# Altium integrated library Linear Technology Power Management Switching Regulator LTC1174-LTC3901.IntLib: 2647 symbols (part 284 of 364)
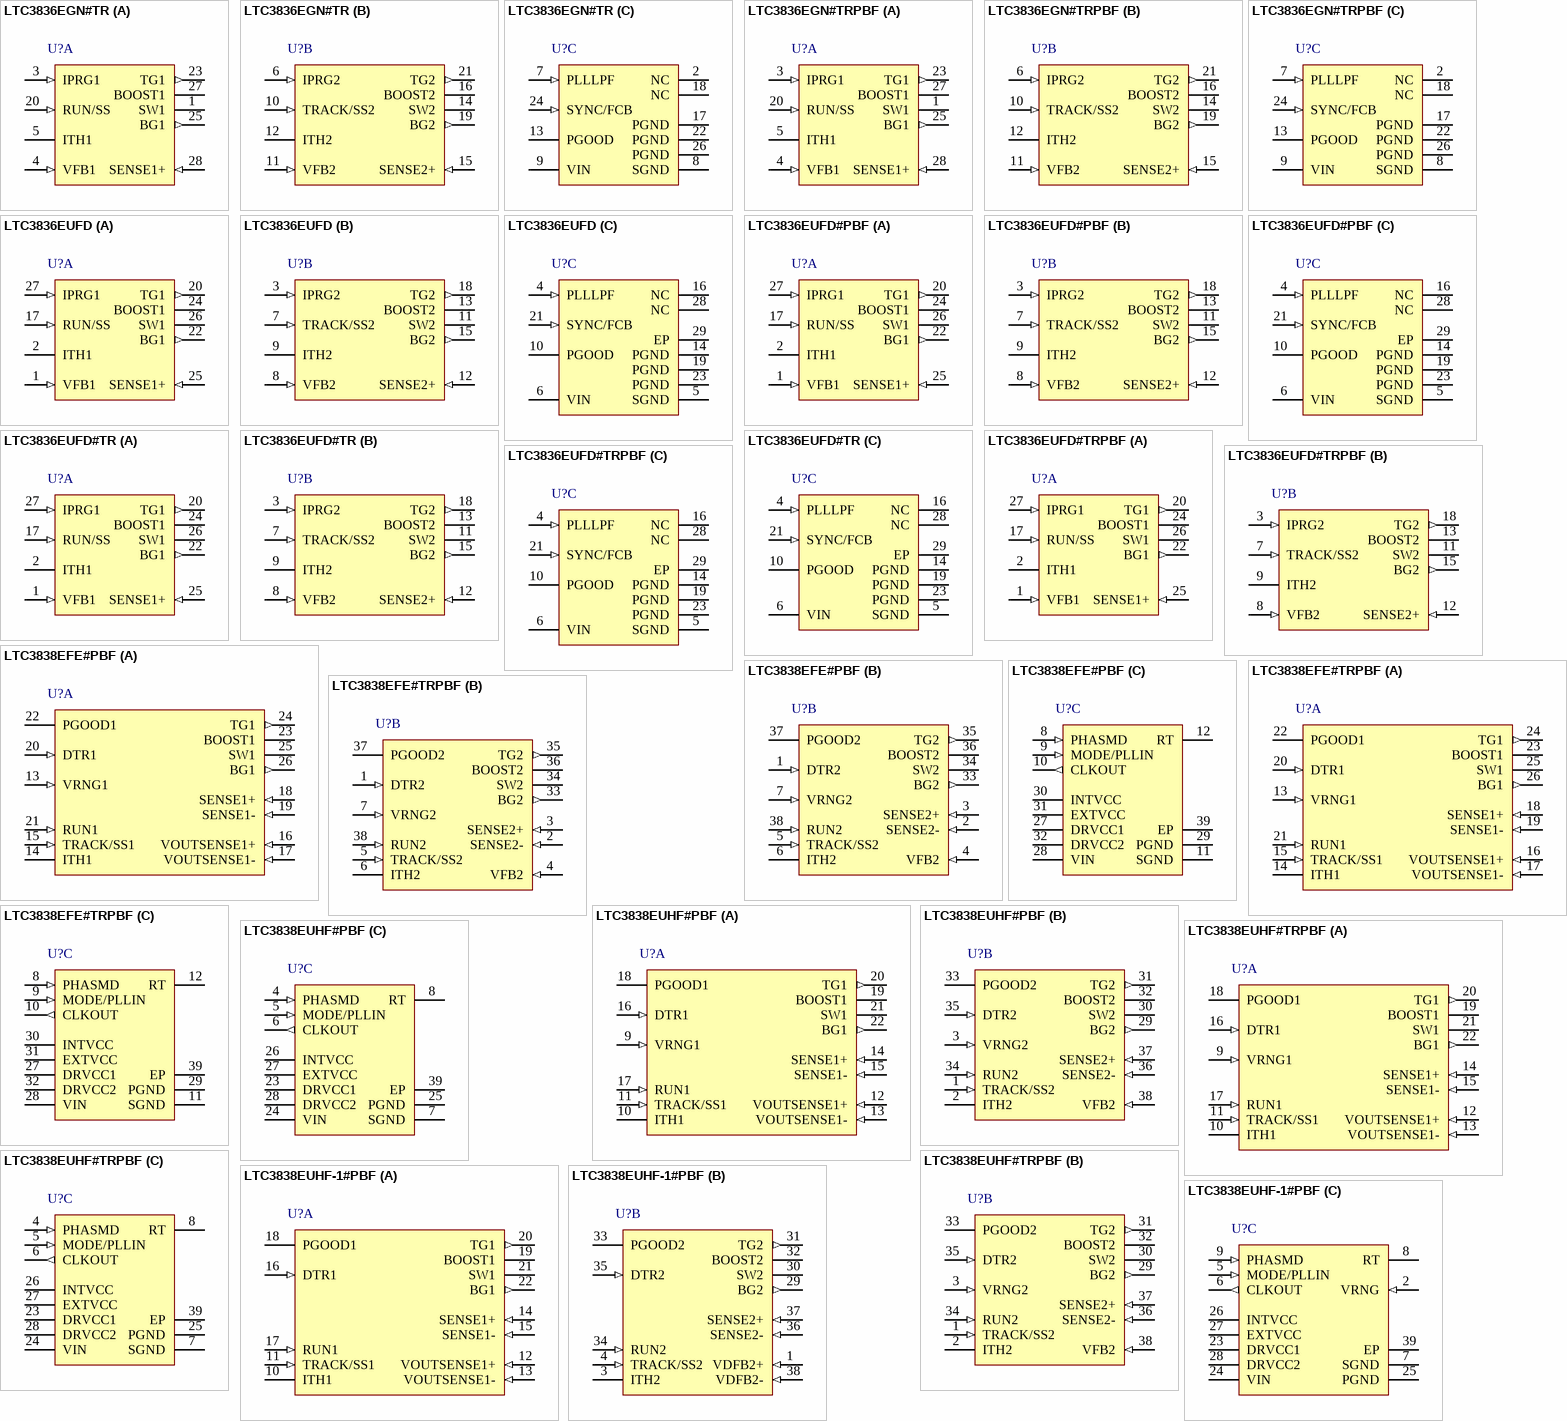
[diagram p362: symbols LTC3836EGN#TR to LTC3838EUHF-1#PBF]

## LTC3836EUFD
designator U?
Dual 2-Phase Synchronous Controller, 2.75 to 4.5 V Vin, 28-pin QFN (UFD-28), -40 to 85 degC; Manufacturer: Linear Technology; PartNumber: LTC3836EUFD; Frequency Sync Range: 250kHz - 850kHz; Number of Outputs: 2; DatasheetVersion: Rev. B; PackageVersion: Rev. B, 06/2010; PackageReference: UFD-28; PackageDescription: 28-Pin Plastic QFN, Body 5 x 4 mm, Pitch 0.5 mm; RoHS: FALSE; Mounting Technology: Surface Mount; Code_JEDEC: MO-220; ComponentLink1Description: Manufacturer URL; ComponentLink1URL: http://www.linear.com/; ComponentLink2Description: Datasheet; ComponentLink2URL: http://cds.linear.com/docs/en/datasheet/3836fb.pdf; ComponentLink3Description: Package Specification; ComponentLink3URL: http://cds.linear.com/docs/en/packaging/QFN_28_05-08-1712.pdf
footprint LT-UFD-28_N (QFN, 28-Leads, Body 5.1x4.1mm, Pitch 0.5mm, Thermal Pad 3.65x2.65mm, IPC Medium Density)
footprint LT-UFD-28_L (QFN, 28-Leads, Body 5.1x4.1mm, Pitch 0.5mm, Thermal Pad 3.65x2.65mm, IPC High Density)
footprint LT-UFD-28_M (QFN, 28-Leads, Body 5.1x4.1mm, Pitch 0.5mm, Thermal Pad 3.65x2.65mm, IPC Low Density)
part A pins: 1 VFB1 (in) "Feedback Pins. Receives the remotely sensed feedback voltage for its controller from an external resistor divider across the output.", 2 ITH1 "Current Threshold and Error Amplifier Compensation Point. Nominal operating range on these pins is from 0.7V to 2V. The voltage on these pins determines the threshold of the main current comparator.", 17 RUN/SS (in) "Run Control Input and Optional External Soft-Start Input. Forcing this pin below 0.65V shuts down the chip (both channels). Driving this pin to VIN or releasing this pin enables the chip, using the chip’s interna(See Datasheet)", 20 TG1 (out) "Top Gate Drive Output. These pins drive the gates of the external topside MOSFETs. These pins have an output swing from PGND to BOOST.", 22 BG1 (out) "Bottom Gate Drive Output. These pins drive the gates of the external synchronous MOSFETs. These pins have an output swing from PGND to BOOST.", 24 BOOST1 "Positive Supply Pin for the Gate Driver Circuitry. A bootstrapped capacitor, charged with an external Schottky diode and a boost voltage source, is connected between the BOOST and SW pins. Voltage swing at the BOOST pins is (See Datasheet)", 25 SENSE1+ (in) "Positive Input to Differential Current Comparator. Also powers the gate drivers. Normally connected to the drain of the main external MOSFET.", 26 SW1 "Switch Node Connection to Inductor and External MOSFETs. Also the negative input to differential peak current comparator and an input to the reverse current comparator. Normally connected to the source of the main MOSFET, (See Datasheet)", 27 IPRG1 (in) "Three-State Pins to Select Maximum Peak Sense Voltage Threshold. These pins select the maximum allowed voltage drop between the SENSE+ and SW pins (i.e., the maximum allowed drop across the external main MOSFET) for each (See Datasheet)"
part B pins: 3 IPRG2 (in) "Three-State Pins to Select Maximum Peak Sense Voltage Threshold. These pins select the maximum allowed voltage drop between the SENSE+ and SW pins (i.e., the maximum allowed drop across the external main MOSFET) for each (See Datasheet)", 7 TRACK/SS2 (in) "Channel 2 Tracking and Soft-Start Input. The LTC3836 regulates the VFB2 voltage to the smaller of 0.6V or the voltage on the TRACK/SS2 pin. An internal 1.5uA pull-up current source is connected to this pin. A capacitor to (See Datasheet)", 8 VFB2 (in) "Feedback Pins. Receives the remotely sensed feedback voltage for its controller from an external resistor divider across the output.", 9 ITH2 "Current Threshold and Error Amplifier Compensation Point. Nominal operating range on these pins is from 0.7V to 2V. The voltage on these pins determines the threshold of the main current comparator.", 11 SW2 "Switch Node Connection to Inductor and External MOSFETs. Also the negative input to differential peak current comparator and an input to the reverse current comparator. Normally connected to the source of the main MOSFET, (See Datasheet)", 12 SENSE2+ (in) "Positive Input to Differential Current Comparator. Also powers the gate drivers. Normally connected to the drain of the main external MOSFET.", 13 BOOST2 "Positive Supply Pin for the Gate Driver Circuitry. A bootstrapped capacitor, charged with an external Schottky diode and a boost voltage source, is connected between the BOOST and SW pins. Voltage swing at the BOOST pins is (See Datasheet)", 15 BG2 (out) "Bottom Gate Drive Output. These pins drive the gates of the external synchronous MOSFETs. These pins have an output swing from PGND to BOOST.", 18 TG2 (out) "Top Gate Drive Output. These pins drive the gates of the external topside MOSFETs. These pins have an output swing from PGND to BOOST."
part C pins: 4 PLLLPF (in) "Frequency Set/PLL Lowpass Filter. When synchronizing to an external clock, this pin serves as the lowpass filter point for the phase-locked loop. Normally a series RC is connected between this pin and ground. When not (See Datasheet)", 5 SGND (power) "Small-Signal Ground. This pin serves as the ground connection for most internal circuits.", 6 VIN (power) "Small-Signal Power Supply. This pin powers the entire chip except for the gate drivers. Externally filtering this pin with a lowpass RC network (e.g., R = 10ohm, C = 1uF) is suggested to minimize noise pickup, especially in (See Datasheet)", 10 PGOOD (oc) "Power-Good Output Voltage Monitor Open-Drain Logic Output. This pin is pulled to ground when the voltage on either feedback pin (VFB1,VFB2) is not within +/-13.3% of its nominal set point.", 14 PGND (power) "Power Ground. These pins serve as the ground connection for the gate drivers and the negative input to the reverse current comparators. The Exposed Pad must be soldered to PCB ground.", 16 NC "No Connection.", 19 PGND (power) "Power Ground. These pins serve as the ground connection for the gate drivers and the negative input to the reverse current comparators. The Exposed Pad must be soldered to PCB ground.", 21 SYNC/FCB (in) "This pin performs two functions: 1) external clock synchronization input for phase-locked loop, and 2) pulse-skipping operation or forced continuous mode select. To synchronize with an external clock using the PLL, apply a (See Datasheet)", 23 PGND (power) "Power Ground. These pins serve as the ground connection for the gate drivers and the negative input to the reverse current comparators. The Exposed Pad must be soldered to PCB ground.", 28 NC "No Connection.", 29 EP (power) "Must be soldered to PCB ground."